# Altium schematic symbol library T491C226M010AT.SchLib: 2 symbols
Pins are listed as number, name and electrical type; pins without a type are passive.

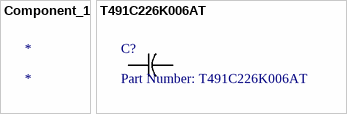
[diagram p0: symbols Component_1 to T491C226K006AT]

## Component_1
designator *

## T491C226K006AT
designator C?, comment Part Number: T491C226K006AT
No Description Available; Vendor: Kemet; Built_By: EMA_UL_Team; Type: DEV; Manufacturer_Part_Number: T491C226K006AT; Copyright: Copyright (C) 2018 Accelerated Designs. All rights reserved; RefDes: RefDes; Value: Value
footprint CAPT6032N
pins: 1, 2